# EAGLE library part LSM6D-SENSOR (library FlashPCB_Sensors)
LSM6D* Sensors - 14 LGA Technical Specifications: Output Type: I²C, SPI Output Operating Temperature: -40°C ~ 85°C Component Search: iNEMO inertial module: always-on 3D accelerometer and 3D gyroscope <[FLASHPCB URL]> Datasheet: iNEMO inertial module: always-on 3D accelerometer and 3D gyroscope <https://www.st.com/content/ccc/resource/technical/document/datasheet/76/27/cf/88/c5/03/42/6b/DM00218116.pdf/files/DM00218116.pdf/jcr:content/translations/en.DM00218116.pdf>
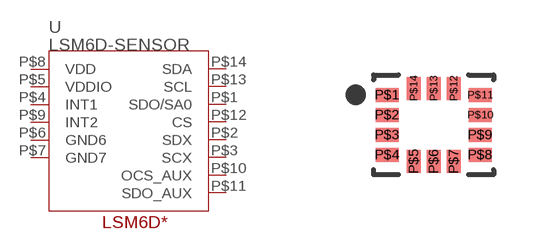
[diagram p14: symbol with the pads of 14-LGA(2.5X3); footprint 14-LGA(2.5X3)]

Designator prefix U

## LSM6D-SENSOR  [14-LGA(2.5X3)]
P$1  SDO/SA0
P$2  SDX
P$3  SCX
P$4  INT1
P$5  VDDIO
P$6  GND6
P$7  GND7
P$8  VDD
P$9  INT2
P$10  OCS_AUX
P$11  SDO_AUX
P$12  CS
P$13  SCL
P$14  SDA

## Footprint 14-LGA(2.5X3) (pad centres in mm)
smd 0.575 x 0.35: P$1 -1.163,0.75; P$2 -1.163,0.25; P$3 -1.163,-0.25; P$4 -1.163,-0.75; P$8 1.163,-0.75; P$9 1.163,-0.25; P$10 1.163,0.25; P$11 1.163,0.75
smd 0.35 x 0.575: P$5 -0.5,-0.912; P$6 0,-0.912; P$7 0.5,-0.912; P$12 0.5,0.912; P$13 0,0.912; P$14 -0.5,0.912